# Altium integrated library G5Q-14-EU_DC5.IntLib: 1 symbol
Pins are listed as number, name and electrical type; pins without a type are passive.

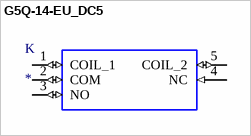
[diagram p0: symbol G5Q-14-EU_DC5]

## G5Q-14-EU_DC5
designator K
General Purpose Relay SPDT _1 Form C_ 5VDC Coil Through Hole; MF: Omron Electronics; MP: G5Q-14-EU DC5; Value: *; Price: None; Package: None; SnapEDA_Link: https://www.snapeda.com/parts/G5Q-14-EU%20DC5/Omron%20Electronics%20Inc-EMC%20Div/view-part/3216267/?ref=snap; Availability: Unavailable
footprint G5Q14EUDC5
pins: 1 COIL_1 (io), 2 COM (io), 3 NO (io), 4 NC (in), 5 COIL_2 (io)